# EAGLE library part HEADER_01X28 (library MF_Connectors)
Library: MF_Connectors Description: Header Connector with 28 Positions and 01 Rows. Use the LABEL Attribute to label the pin on the schematic and PCB. You can remove the attributes on the PCB by using the SMASH function on the part and then deleting the text.
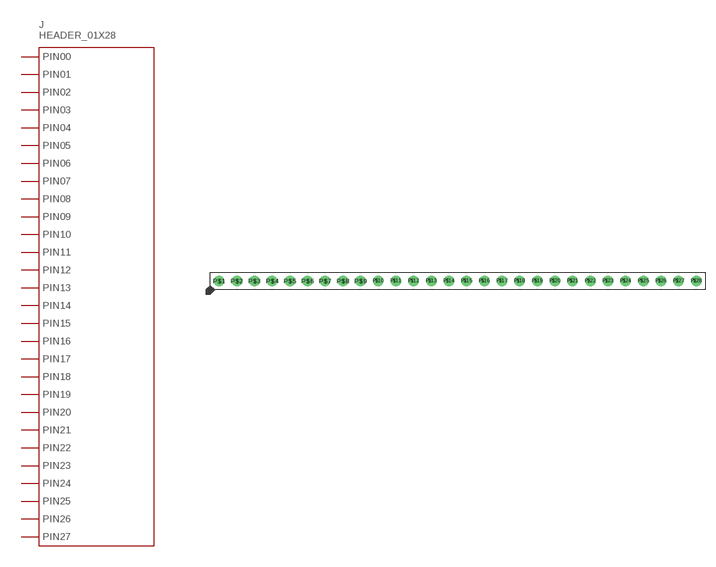
[diagram p24: symbol with the pads of PTH_2.54MM_01X28; footprint PTH_2.54MM_01X28]

Designator prefix J

## HEADER_01X28_PTH_2.54MM  [PTH_2.54MM_01X28]
P$1  PIN0
P$2  PIN1
P$3  PIN2
P$4  PIN3
P$5  PIN4
P$6  PIN5
P$7  PIN6
P$8  PIN7
P$9  PIN8
P$10  PIN9
P$11  PIN10
P$12  PIN11
P$13  PIN12
P$14  PIN13
P$15  PIN14
P$16  PIN15
P$17  PIN16
P$18  PIN17
P$19  PIN18
P$20  PIN19
P$21  PIN20
P$22  PIN21
P$23  PIN22
P$24  PIN23
P$25  PIN24
P$26  PIN25
P$27  PIN26
P$28  PIN27

## Footprint PTH_2.54MM_01X28 (pad centres in mm)
Description: Package for 2.54MM Pitch Header 28 Position. Based on 4UCON 00834.
drill 1: P$1 -34.29,0; P$2 -31.75,0; P$3 -29.21,0; P$4 -26.67,0; P$5 -24.13,0; P$6 -21.59,0; P$7 -19.05,0; P$8 -16.51,0; P$9 -13.97,0; P$10 -11.43,0; P$11 -8.89,0; P$12 -6.35,0; P$13 -3.81,0; P$14 -1.27,0; P$15 1.27,0; P$16 3.81,0; P$17 6.35,0; P$18 8.89,0; P$19 11.43,0; P$20 13.97,0; P$21 16.51,0; P$22 19.05,0; P$23 21.59,0; P$24 24.13,0; P$25 26.67,0; P$26 29.21,0; P$27 31.75,0; P$28 34.29,0